# Altium footprint library T35_V2.PcbLib: 35 footprints (part 1 of 3)
Each footprint in its own frame and in the unit in brackets; x right, y up, seen from the top. Pads: shape width x height; smd on the part's side, far side on the other; paste and mask are expansions set on the pad; w line width, h text height; cw(c..) or ccw(c..) is an arc to the next point about the centre after c.
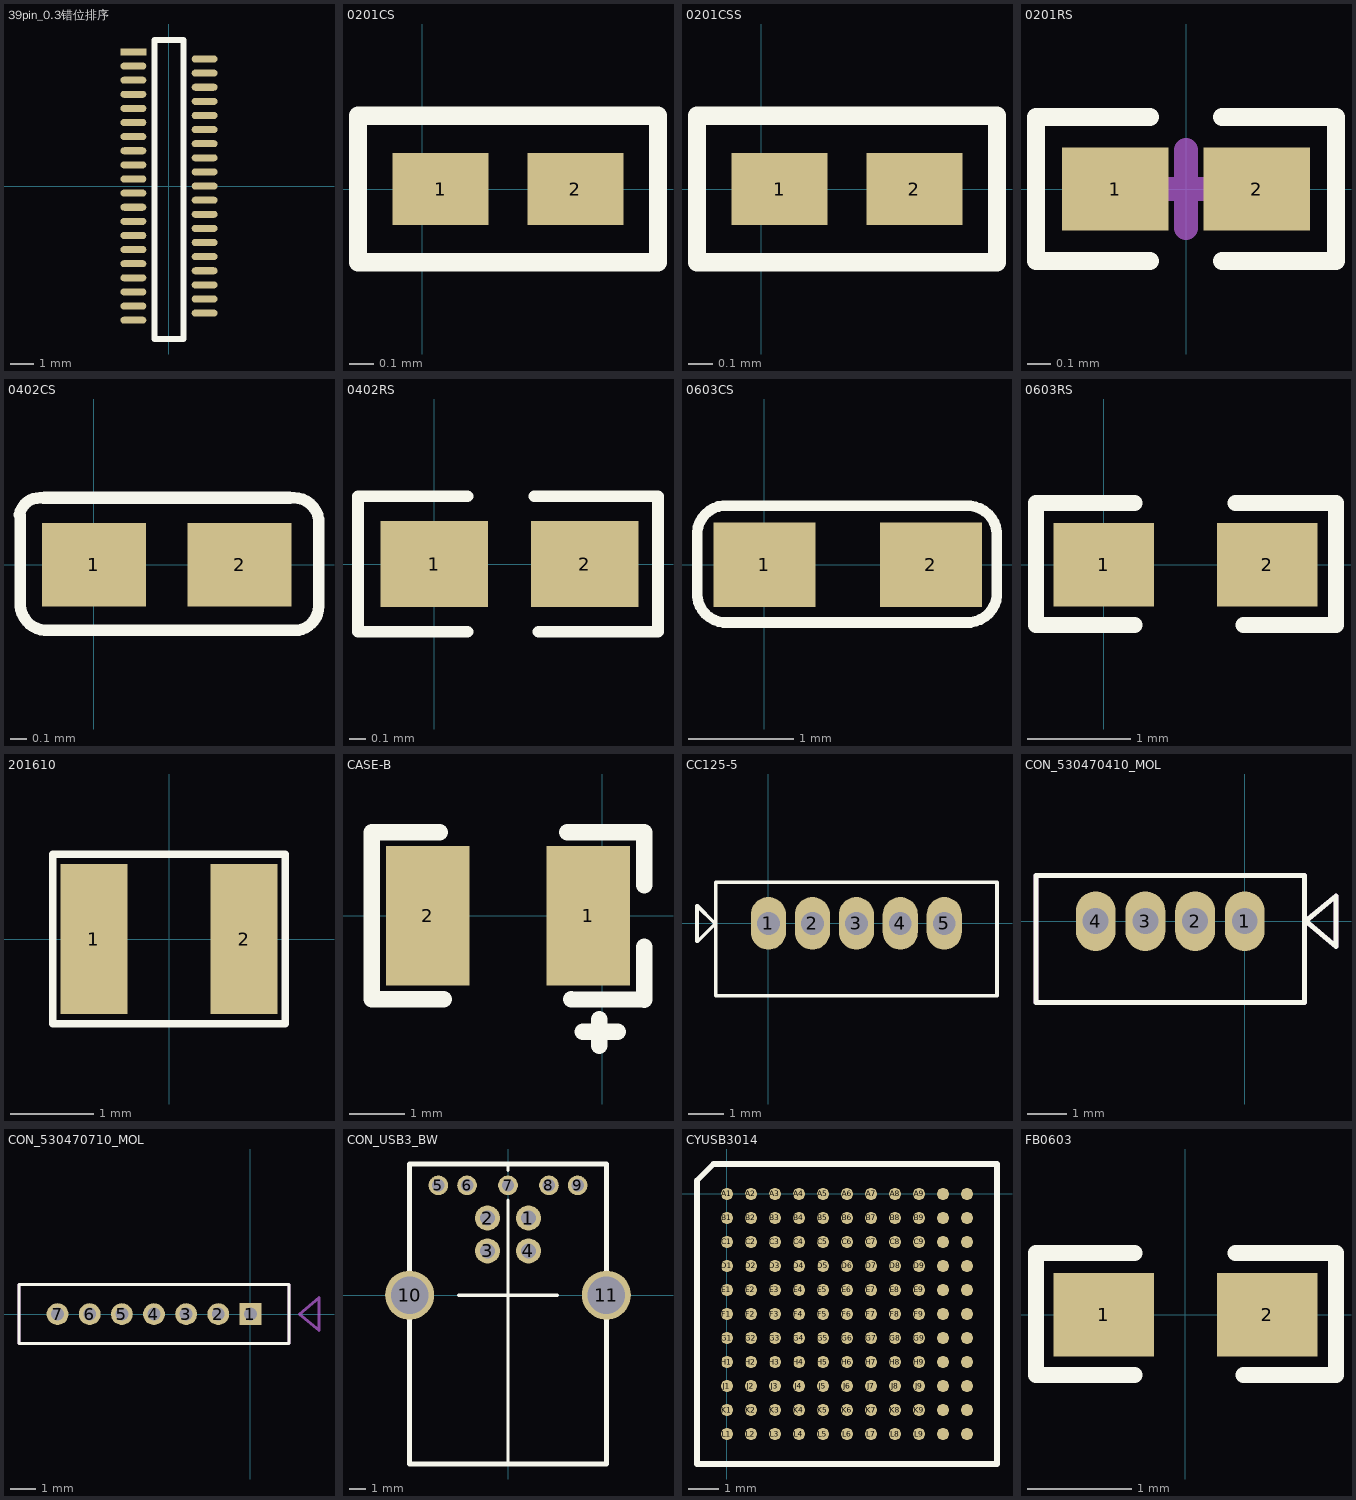
[diagram p0: the footprints below, top view; thin cyan lines are the x and y axes]

## 39pin_0.3错位排序 [mm]
pads (39):
  rect 1.1x0.3 smd: 1(-1.512,5.7)
  oval 1.1x0.3 smd: 2(1.512,5.4) 3(-1.512,5.1) 4(1.512,4.8) 5(-1.512,4.5) 6(1.512,4.2) 7(-1.512,3.9) 8(1.512,3.6) 9(-1.512,3.3) 10(1.512,3) 11(-1.512,2.7) 12(1.512,2.4) 13(-1.512,2.1) 14(1.512,1.8) 15(-1.512,1.5) 16(1.512,1.2) 17(-1.512,0.9) 18(1.512,0.6) 19(-1.512,0.3) 20(1.512,0) 21(-1.512,-0.3) 22(1.512,-0.6) 23(-1.512,-0.9) 24(1.512,-1.2) 25(-1.512,-1.5) 26(1.512,-1.8) 27(-1.512,-2.1) 28(1.512,-2.4) 29(-1.512,-2.7) 30(1.512,-3) 31(-1.512,-3.3) 32(1.512,-3.6) 33(-1.512,-3.9) 34(1.512,-4.2) 35(-1.512,-4.5) 36(1.512,-4.8) 37(-1.512,-5.1) 38(1.512,-5.4) 39(-1.512,-5.7)
Top Overlay:
  lines w0.254: -0.623,-6.5 -0.623,6.2 0.621,6.2 0.621,-6.5 -0.623,-6.5
3D body "10061122391320hlf.stp": height 0.9, standoff 0, extent -1.69,-6.765 1.81,6.735

## 0201CS [mm]
pads (2):
  rect 0.4x0.3 smd: 1(0.075,0) 2(0.636,0)
Top Overlay:
  lines w0.076: -0.268,-0.305 0.979,-0.305 0.979,0.305 -0.268,0.305 -0.268,-0.305
3D body "CAPC0603(0201).STEP": height 0.29, standoff -0.01, extent 0.056,-0.148 0.656,0.152

## 0201CSS [mm]
pads (2):
  rect 0.4x0.3 smd: 1(0.075,0) 2(0.636,0)
Top Overlay:
  lines w0.076: -0.268,-0.305 0.979,-0.305 0.979,0.305 -0.268,0.305 -0.268,-0.305
3D body "CAPC0603(0201).STEP": height 0.29, standoff -0.01, extent 0.056,-0.148 0.656,0.152

## 0201RS [mm] "Chip Resistor, 2-Leads, Body 0.60x0.30mm, IPC Medium Density"
height 0.26
pads (2):
  rect 0.45x0.35 smd mask+0.051: 1(-0.3,0) 2(0.3,0)
Top Overlay:
  lines w0.076: -0.152,-0.305 -0.635,-0.305 -0.635,0.305 -0.152,0.305 ; 0.152,-0.305 0.635,-0.305 0.635,0.305 0.152,0.305
Mechanical 15:
  lines w0.1: -0.165,0 0.165,0 ; 0,-0.165 0,0.165
3D body "0201RS.step": height 0.26, standoff 0, extent -0.315,-0.165 0.315,0.165

## 0402CS [mil]
pads (2):
  rect 25x20 smd: 1(0,0) 2(35,0)
Top Overlay:
  lines w2.76: -17.91,12.06 cw(c-12.98,11.08) -12,16 ; -17.72,11.81 -17.72,-8.86 ccw(c-11.32,-9.35) -11.81,-15.75 49.25,-15.75 ; 47,16 cw(c48,10) 54,11 54,-10 cw(c48.25,-10) 48.25,-15.75
  lines w3: -11.81,16.14 46.89,16.14
3D body "CAPC1005(0402).STEP": height 19.68, standoff 0, extent -2.68,-9.68 36.69,10

## 0402RS [mil]
pads (2):
  rect 25x20 smd: 1(0,0) 2(35,0)
Top Overlay:
  lines w2.76: -17.72,-15.75 -17.72,15.75 ; 52,-15.75 52,15.75
  lines w2.77: -17.72,-15.75 7.75,-15.75 ; -17.72,15.75 7.75,15.75 ; 23.25,15.75 52,15.75 ; 24.25,-15.75 52,-15.75
3D body "RESC1005(0402).STEP": height 14.96, standoff 0, extent -1.68,-10 37.68,9.69

## 0603CS [mm]
pads (2):
  rect 0.965x0.8 smd: 1(0,0) 2(1.575,0)
Top Overlay:
  lines w0.1: -0.635,0.26 cw(c-0.36,0.285) -0.387,0.56 1.896,0.56 ; -0.635,0.301 -0.635,-0.299 ccw(c-0.36,-0.271) -0.335,-0.546 1.95,-0.546 ; 1.9,0.556 cw(c1.925,0.281) 2.2,0.308 ; 1.952,-0.544 ccw(c1.925,-0.269) 2.2,-0.244 ; 2.2,-0.294 2.2,0.281
3D body "CAPC1608(0603).STEP": height 0.6, standoff 0, extent -0.013,-0.4 1.587,0.4

## 0603RS [mm]
pads (2):
  rect 0.965x0.8 smd: 1(0,0) 2(1.575,0)
Top Overlay:
  lines w0.152: 0.3,-0.581 -0.65,-0.58 -0.65,0.594 0.3,0.594 ; 1.27,0.594 2.235,0.594 2.235,-0.581 1.346,-0.581
3D body "RESC1608(0603).STEP": height 0.38, standoff 0, extent -0.013,-0.4 1.587,0.4

## 201610 [mm] "MHCD201610B-2R2M-A8L"
height 1
pads (2):
  rect 0.8x1.8 smd: 1(-0.9,0) 2(0.9,0)
Top Overlay:
  lines w0.089: -1.397,-1.016 -1.397,1.016 -0.466,1.016 0.466,1.016 1.397,1.016 1.397,-1.016 -1.397,-1.016
3D body: height 1, standoff 0, extent -1.143,-0.889 1.143,0.889

## CASE-B [mil]
pads (2):
  rect 60x100 smd: 1(-10,0) 2(-125,0)
Top Overlay:
  lines w11.81: -116.54,59.84 -165,59.84 -165,-59.84 -113.39,-59.84 ; -25.2,59.84 30,59.84 30,22.05 ; -22.05,-59.84 30,-60 ; -14,-83.1 11.2,-83.1 ; -2,-93 -2,-74.1 ; 30,-59.84 30,-22.05
3D body "SW3dPS-cap_b.STEP": height 75.2, standoff 0, extent -134.5,-54.12 3,56.12

## CC125-5 [mm] "CC125-5"
height 1.2
pads (5):
  oval 1x1.5 hole 0.65: 1(0,0) 2(1.25,0) 3(2.5,0) 4(3.75,0) 5(5,0)
Top Overlay:
  lines w0.1: -2.032,-0.508 -2.032,0.508 -1.524,0 -1.5,0 -2.008,-0.508 -2.032,-0.508 ; -1.5,-2.057 -1.5,1.168 6.5,1.168 6.5,-2.057 -1.5,-2.057
3D body "CC125_5.STEP": height 4.6, standoff -2.5, extent -1.511,-2.032 6.489,1.168

## CON_530470410_MOL [mm]
pads (4):
  oval 1x1.5 hole 0.65: 1(0,0) 2(-1.25,0) 3(-2.5,0) 4(-3.75,0)
Top Overlay:
  lines w0.127: -5.25,-2.05 -5.25,1.15 1.5,1.15 1.5,-2.05 -5.25,-2.05 ; 1.531,0 2.293,0.635 2.293,-0.635 1.531,0
Mechanical 13:
  lines w0.127: -5.25,-2.05 1.5,-2.05 1.5,1.15 -5.25,1.15 -5.25,-2.05 ; 1.531,0 2.293,0.635 2.293,-0.635 1.531,0
3D body "530470410.stp": height 4.28, standoff -2.22, extent -5.28,-2.108 1.47,1.092
3D body: height 1.6, standoff -1.6, extent -2.032,-0.762 -2.032,-0.762

## CON_530470710_MOL [mm]
pads (7):
  rect 0.85x0.85 hole 0.5 mask+0.076: 1(0,0)
  round 0.85 hole 0.5 mask+0.076: 2(-1.25,0) 3(-2.5,0) 4(-3.75,0) 5(-5,0) 6(-6.25,0) 7(-7.5,0)
Top Overlay:
  lines w0.127: -9,-1.143 1.5,-1.143 1.5,1.15 -9,1.15 -9,-1.143
Mechanical 13:
  lines w0.127: -9,-1.143 -9,1.15 1.5,1.15 1.5,-1.143 -9,-1.143 ; 1.905,0 2.667,0.635 2.667,-0.635 1.905,0
3D body: height 0.25, standoff 0, extent 0,0 0.254,0.254

## CON_USB3_BW [mm]
pads (11):
  round 1.524 hole 0.92: 1(1.25,4.7) 2(-1.25,4.7) 3(-1.25,2.7) 4(1.25,2.7)
  round 1.2 hole 0.762: 5(-4.25,6.7) 6(-2.5,6.7) 7(0,6.7) 8(2.5,6.7) 9(4.25,6.7)
  round 3 hole 2.3: 10(-6,0) 11(6,0)
Top Overlay:
  lines w0.2: -3,0 3,0 ; 0,-10.3 0,5.8 ; 0,7.6 0,8
  lines w0.3: -6,6.4 -6,7.1 ; -6,6.7 -6,-8 -6,-10.3 6,-10.3 6,-7.9 ; -6,6.8 -6,8 6,8 6,5.8 ; 6,-8 6,6.8
3D body "USB3.0座.STEP": height 12.95, standoff -3.76, extent -7.326,-10.363 7.273,8.077

## CYUSB3014 [mm]
pads (121):
  round 0.4 smd: A1(0,0) A2(0.8,0) A3(1.6,0) A4(2.4,0) A5(3.2,0) A6(4,0) A7(4.8,0) A8(5.6,0) A9(6.4,0) A10(7.2,0) A11(8,0) B1(0,-0.8) B2(0.8,-0.8) B3(1.6,-0.8) B4(2.4,-0.8) B5(3.2,-0.8) B6(4,-0.8) B7(4.8,-0.8) B8(5.6,-0.8) B9(6.4,-0.8) B10(7.2,-0.8) B11(8,-0.8) C1(0,-1.6) C2(0.8,-1.6) C3(1.6,-1.6) C4(2.4,-1.6) C5(3.2,-1.6) C6(4,-1.6) C7(4.8,-1.6) C8(5.6,-1.6) C9(6.4,-1.6) C10(7.2,-1.6) C11(8,-1.6) D1(0,-2.4) D2(0.8,-2.4) D3(1.6,-2.4) D4(2.4,-2.4) D5(3.2,-2.4) D6(4,-2.4) D7(4.8,-2.4) D8(5.6,-2.4) D9(6.4,-2.4) D10(7.2,-2.4) D11(8,-2.4) E1(0,-3.2) E2(0.8,-3.2) E3(1.6,-3.2) E4(2.4,-3.2) E5(3.2,-3.2) E6(4,-3.2) E7(4.8,-3.2) E8(5.6,-3.2) E9(6.4,-3.2) E10(7.2,-3.2) E11(8,-3.2) F1(0,-4) F2(0.8,-4) F3(1.6,-4) F4(2.4,-4) F5(3.2,-4) F6(4,-4) F7(4.8,-4) F8(5.6,-4) F9(6.4,-4) F10(7.2,-4) F11(8,-4) G1(0,-4.8) G2(0.8,-4.8) G3(1.6,-4.8) G4(2.4,-4.8) G5(3.2,-4.8) G6(4,-4.8) G7(4.8,-4.8) G8(5.6,-4.8) G9(6.4,-4.8) G10(7.2,-4.8) G11(8,-4.8) H1(0,-5.6) H2(0.8,-5.6) H3(1.6,-5.6) H4(2.4,-5.6) H5(3.2,-5.6) H6(4,-5.6) H7(4.8,-5.6) H8(5.6,-5.6) H9(6.4,-5.6) H10(7.2,-5.6) H11(8,-5.6) J1(0,-6.4) J2(0.8,-6.4) J3(1.6,-6.4) J4(2.4,-6.4) J5(3.2,-6.4) J6(4,-6.4) J7(4.8,-6.4) J8(5.6,-6.4) J9(6.4,-6.4) J10(7.2,-6.4) J11(8,-6.4) K1(0,-7.2) K2(0.8,-7.2) K3(1.6,-7.2) K4(2.4,-7.2) K5(3.2,-7.2) K6(4,-7.2) K7(4.8,-7.2) K8(5.6,-7.2) K9(6.4,-7.2) K10(7.2,-7.2) K11(8,-7.2) L1(0,-8) L2(0.8,-8) L3(1.6,-8) L4(2.4,-8) L5(3.2,-8) L6(4,-8) L7(4.8,-8) L8(5.6,-8) L9(6.4,-8) L10(7.2,-8) L11(8,-8)
Top Overlay:
  lines w0.2: -1,-9 -1,0.449 -0.449,1 9,1 9,-9 -1,-9
3D body "CYUSB3014.STEP": height 1.1, standoff 0, extent -1.012,-8.988 8.988,1.012

## FB0603 [mm]
pads (2):
  rect 0.965x0.8 smd: 1(-0.787,0) 2(0.787,0)
Top Overlay:
  lines w0.152: -0.487,-0.581 -1.438,-0.58 -1.438,0.594 -0.487,0.594 ; 0.483,0.594 1.448,0.594 1.448,-0.581 0.559,-0.581
3D body "RESC1608(0603).STEP": height 0.38, standoff 0, extent -0.8,-0.4 0.8,0.4